# Altium footprint library microchip.PCBLIB: 54 footprints (part 2 of 4)
Each footprint in its own frame and in the unit in brackets; x right, y up, seen from the top. Pads: shape width x height; smd on the part's side, far side on the other; paste and mask are expansions set on the pad; w line width, h text height; cw(c..) or ccw(c..) is an arc to the next point about the centre after c.
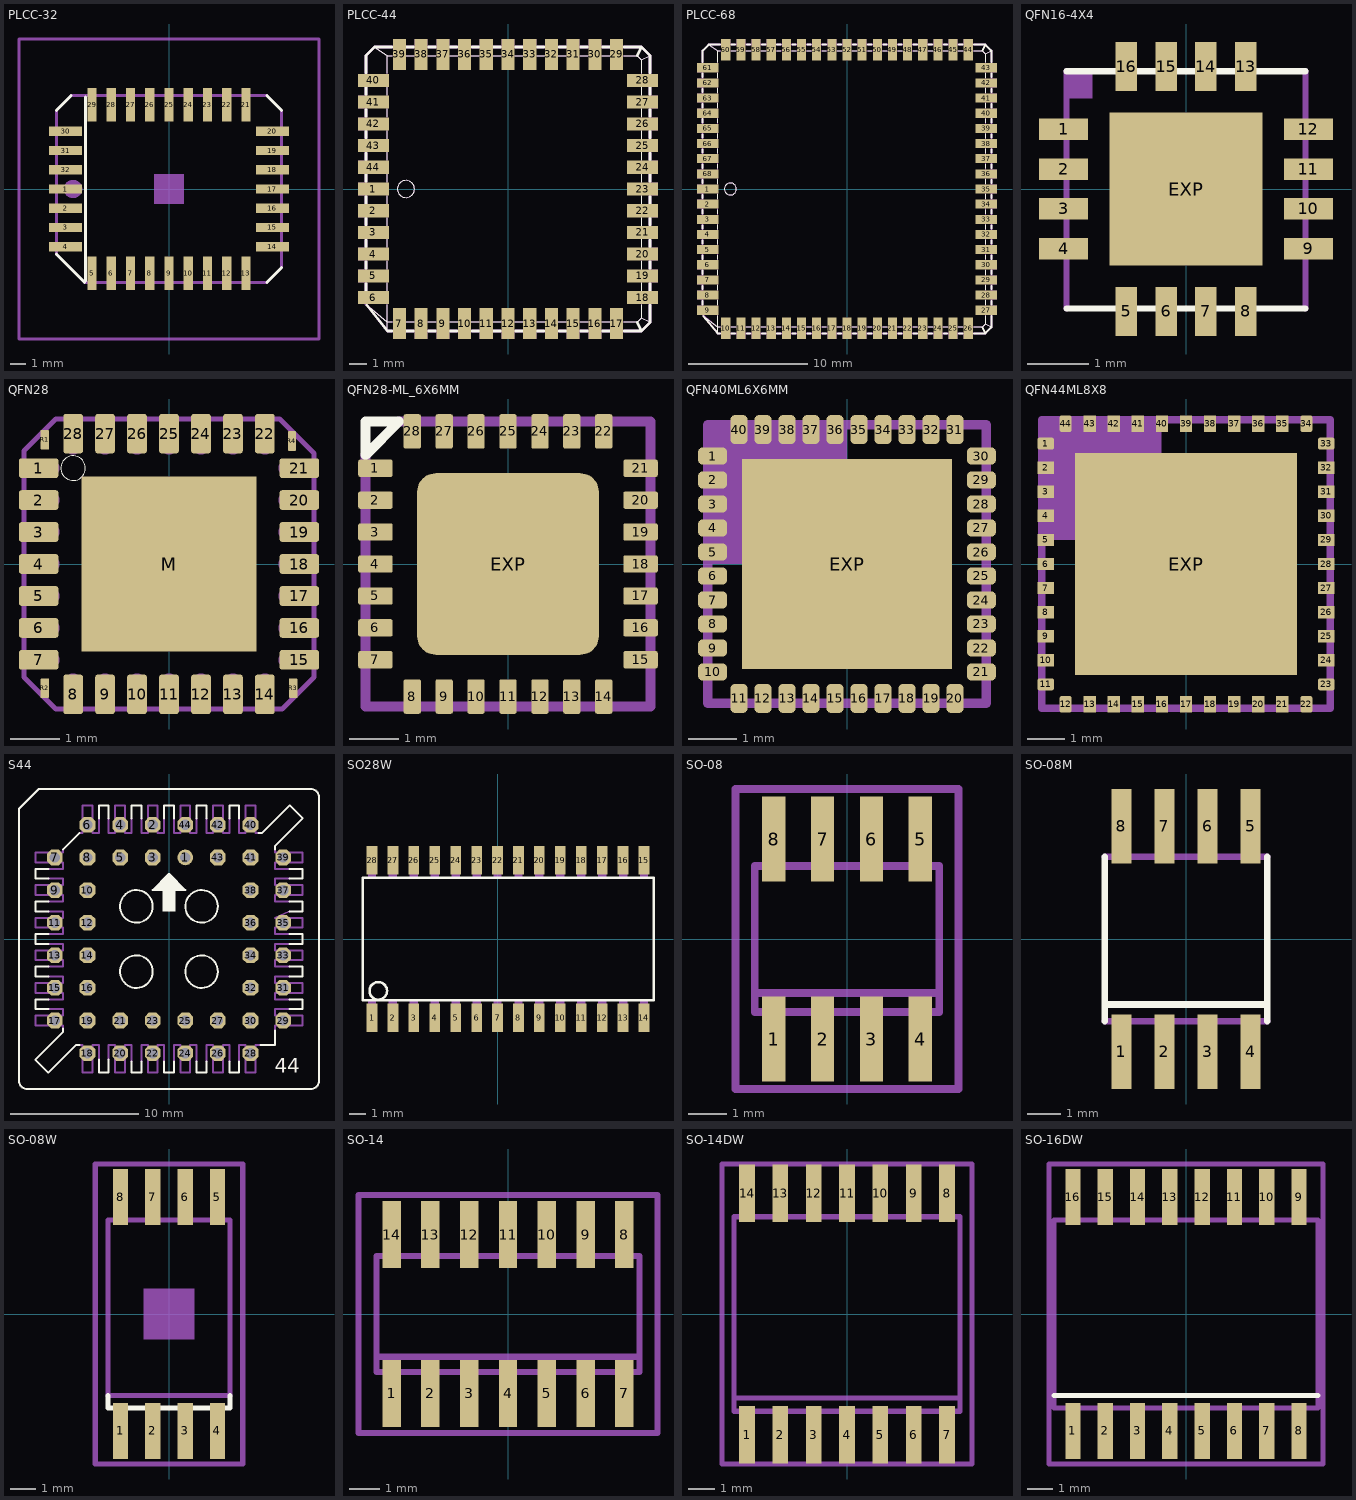
[diagram p1: the footprints below, top view; thin cyan lines are the x and y axes]

## PLCC-32 [mm]
pads (32):
  rect 2.2x0.6 smd: 1(-6.83,0) 2(-6.83,-1.27) 3(-6.83,-2.54) 4(-6.83,-3.81) 14(6.83,-3.81) 15(6.83,-2.54) 16(6.83,-1.27) 17(6.83,0) 18(6.83,1.27) 19(6.83,2.54) 20(6.83,3.81) 30(-6.83,3.81) 31(-6.83,2.54) 32(-6.83,1.27)
  rect 0.6x2.2 smd: 5(-5.08,-5.56) 6(-3.81,-5.56) 7(-2.54,-5.56) 8(-1.27,-5.56) 9(0,-5.56) 10(1.27,-5.56) 11(2.54,-5.56) 12(3.81,-5.56) 13(5.08,-5.56) 21(5.08,5.56) 22(3.81,5.56) 23(2.54,5.56) 24(1.27,5.56) 25(0,5.56) 26(-1.27,5.56) 27(-2.54,5.56) 28(-3.81,5.56) 29(-5.08,5.56)
Top Overlay:
  lines w0.203: -7.43,-4.306 -5.576,-6.16 ; -7.43,5.195 -6.465,6.16 ; -5.525,-6.084 -5.525,6.084 ; 6.465,-6.16 7.43,-5.195 ; 6.465,6.16 7.43,5.195
Mechanical 6:
  rectangle: -1,-1 1,1
Mechanical 16:
  circle w0.61: c-6.33,0 r0.3
  rectangle: -7.93,-0.26 -7.48,0.26
  rectangle: -7.93,-1.53 -7.48,-1.01
  rectangle: -7.93,-2.8 -7.48,-2.28
  rectangle: -7.93,-4.07 -7.48,-3.55
  rectangle: -5.34,-6.66 -4.82,-6.21
  rectangle: -4.07,-6.66 -3.55,-6.21
  rectangle: -2.8,-6.66 -2.28,-6.21
  rectangle: -1.53,-6.66 -1.01,-6.21
  rectangle: -0.26,-6.66 0.26,-6.21
  rectangle: 1.01,-6.66 1.53,-6.21
  rectangle: 2.28,-6.66 2.8,-6.21
  rectangle: 3.55,-6.66 4.07,-6.21
  rectangle: 4.82,-6.66 5.34,-6.21
  rectangle: 7.48,-4.07 7.93,-3.55
  rectangle: 7.48,-2.8 7.93,-2.28
  rectangle: 7.48,-1.53 7.93,-1.01
  rectangle: 7.48,-0.26 7.93,0.26
  rectangle: 7.48,1.01 7.93,1.53
  rectangle: 7.48,2.28 7.93,2.8
  rectangle: 7.48,3.55 7.93,4.07
  rectangle: 4.82,6.21 5.34,6.66
  rectangle: 3.55,6.21 4.07,6.66
  rectangle: 2.28,6.21 2.8,6.66
  rectangle: 1.01,6.21 1.53,6.66
  rectangle: -0.26,6.21 0.26,6.66
  rectangle: -1.53,6.21 -1.01,6.66
  rectangle: -2.8,6.21 -2.28,6.66
  rectangle: -4.07,6.21 -3.55,6.66
  rectangle: -5.34,6.21 -4.82,6.66
  rectangle: -7.93,3.55 -7.48,4.07
  rectangle: -7.93,2.28 -7.48,2.8
  rectangle: -7.93,1.01 -7.48,1.53
  lines w0.203: -7.43,-4.306 -7.43,5.195 ; -6.465,6.16 6.465,6.16 ; -5.576,-6.16 6.465,-6.16 ; 7.43,-5.195 7.43,5.195
Mechanical 27:
  lines w0.2: -9.903,-9.903 9.903,-9.903 9.903,9.903 -9.903,9.903 -9.903,-9.903

## PLCC-44 [mm]
pads (44):
  rect 1.8x0.76 smd: 1(-7.86,0) 2(-7.86,-1.27) 3(-7.86,-2.54) 4(-7.86,-3.81) 5(-7.86,-5.08) 6(-7.86,-6.35) 18(7.86,-6.35) 19(7.86,-5.08) 20(7.86,-3.81) 21(7.86,-2.54) 22(7.86,-1.27) 23(7.86,0) 24(7.86,1.27) 25(7.86,2.54) 26(7.86,3.81) 27(7.86,5.08) 28(7.86,6.35) 40(-7.86,6.35) 41(-7.86,5.08) 42(-7.86,3.81) 43(-7.86,2.54) 44(-7.86,1.27)
  rect 0.76x1.8 smd: 7(-6.35,-7.86) 8(-5.08,-7.86) 9(-3.81,-7.86) 10(-2.54,-7.86) 11(-1.27,-7.86) 12(0,-7.86) 13(1.27,-7.86) 14(2.54,-7.86) 15(3.81,-7.86) 16(5.08,-7.86) 17(6.35,-7.86) 29(6.35,7.86) 30(5.08,7.86) 31(3.81,7.86) 32(2.54,7.86) 33(1.27,7.86) 34(0,7.86) 35(-1.27,7.86) 36(-2.54,7.86) 37(-3.81,7.86) 38(-5.08,7.86) 39(-6.35,7.86)
Top Overlay:
  circle w0.051: c-5.96,0 r0.5
  lines w0.051: -8.27,-6.75 -7.04,-7.79 ; -7.79,8.29 -7.04,7.79 ; -7.04,-8.29 -7.04,-7.79 ; -7.04,-6.75 -7.04,-7.79 ; -7.04,-5.95 -7.04,-5.48 ; -7.04,-4.68 -7.04,-4.21 ; -7.04,-3.41 -7.04,-2.94 ; -7.04,-2.14 -7.04,-1.67 ; -7.04,-0.87 -7.04,-0.4 ; -7.04,0.4 -7.04,0.87 ; -7.04,1.67 -7.04,2.14 ; -7.04,2.94 -7.04,3.41 ; -7.04,4.21 -7.04,4.68 ; -7.04,5.48 -7.04,5.95 ; -7.04,6.75 -7.04,7.79 ; -6.75,-7.79 -7.04,-7.79 ; -6.75,7.79 -7.04,7.79 ; -5.95,-7.79 -5.48,-7.79 ; -5.95,7.79 -5.48,7.79 ; -4.68,-7.79 -4.21,-7.79 ; -4.68,7.79 -4.21,7.79 ; -3.41,-7.79 -2.94,-7.79 ; -3.41,7.79 -2.94,7.79 ; -2.14,-7.79 -1.67,-7.79 ; -2.14,7.79 -1.67,7.79 ; -0.87,-7.79 -0.4,-7.79 ; -0.87,7.79 -0.4,7.79 ; 0.4,-7.79 0.87,-7.79 ; 0.4,7.79 0.87,7.79 ; 1.67,-7.79 2.14,-7.79 ; 1.67,7.79 2.14,7.79 ; 2.94,-7.79 3.41,-7.79 ; 2.94,7.79 3.41,7.79 ; 4.21,-7.79 4.68,-7.79 ; 4.21,7.79 4.68,7.79 ; 5.48,-7.79 5.95,-7.79 ; 5.48,7.79 5.95,7.79 ; 6.75,-7.79 7.54,-7.79 7.79,-7.54 ; 6.75,7.79 7.54,7.79 7.79,7.54 ; 7.79,-6.75 7.79,-7.54 ; 7.79,-5.95 7.79,-5.48 ; 7.79,-4.68 7.79,-4.21 ; 7.79,-3.41 7.79,-2.94 ; 7.79,-2.14 7.79,-1.67 ; 7.79,-0.87 7.79,-0.4 ; 7.79,0.4 7.79,0.87 ; 7.79,1.67 7.79,2.14 ; 7.79,2.94 7.79,3.41 ; 7.79,4.21 7.79,4.68 ; 7.79,5.48 7.79,5.95 ; 7.79,6.75 7.79,7.54 ; 8.29,-7.79 7.79,-7.54 ; 8.29,7.79 7.79,7.54
  lines w0.152: -8.29,-5.91 -8.29,-5.52 ; -8.29,-4.64 -8.29,-4.25 ; -8.29,-3.37 -8.29,-2.98 ; -8.29,-2.1 -8.29,-1.71 ; -8.29,-0.83 -8.29,-0.44 ; -8.29,0.44 -8.29,0.83 ; -8.29,1.71 -8.29,2.1 ; -8.29,2.98 -8.29,3.37 ; -8.29,4.25 -8.29,4.64 ; -8.29,5.52 -8.29,5.91 ; -8.29,6.79 -8.29,7.79 -7.79,8.29 -6.79,8.29 ; -8.24,-6.79 -7.04,-8.29 -6.79,-8.29 ; -5.91,-8.29 -5.52,-8.29 ; -5.91,8.29 -5.52,8.29 ; -4.64,-8.29 -4.25,-8.29 ; -4.64,8.29 -4.25,8.29 ; -3.37,-8.29 -2.98,-8.29 ; -3.37,8.29 -2.98,8.29 ; -2.1,-8.29 -1.71,-8.29 ; -2.1,8.29 -1.71,8.29 ; -0.83,-8.29 -0.44,-8.29 ; -0.83,8.29 -0.44,8.29 ; 0.44,-8.29 0.83,-8.29 ; 0.44,8.29 0.83,8.29 ; 1.71,-8.29 2.1,-8.29 ; 1.71,8.29 2.1,8.29 ; 2.98,-8.29 3.37,-8.29 ; 2.98,8.29 3.37,8.29 ; 4.25,-8.29 4.64,-8.29 ; 4.25,8.29 4.64,8.29 ; 5.52,-8.29 5.91,-8.29 ; 5.52,8.29 5.91,8.29 ; 6.79,-8.29 7.79,-8.29 ; 6.79,8.29 7.79,8.29 ; 7.54,-7.79 7.79,-8.29 ; 7.54,7.79 7.79,8.29 ; 8.29,-6.79 8.29,-7.79 7.79,-8.29 ; 8.29,-5.91 8.29,-5.52 ; 8.29,-4.64 8.29,-4.25 ; 8.29,-3.37 8.29,-2.98 ; 8.29,-2.1 8.29,-1.71 ; 8.29,-0.83 8.29,-0.44 ; 8.29,0.44 8.29,0.83 ; 8.29,1.71 8.29,2.1 ; 8.29,2.98 8.29,3.37 ; 8.29,4.25 8.29,4.64 ; 8.29,5.52 8.29,5.91 ; 8.29,6.79 8.29,7.79 7.79,8.29
Mechanical 16:
  circle w0.051: c-5.96,0 r0.5
  rectangle: -2.92,8.29 -2.16,8.76
  rectangle: -1.65,8.29 -0.89,8.76
  rectangle: -0.38,8.29 0.38,8.76
  rectangle: 0.89,8.29 1.65,8.76
  rectangle: 2.16,8.29 2.92,8.76
  rectangle: 3.43,8.29 4.19,8.76
  rectangle: 4.7,8.29 5.46,8.76
  rectangle: 8.29,3.43 8.76,4.19
  rectangle: 8.29,2.16 8.76,2.92
  rectangle: 8.29,0.89 8.76,1.65
  rectangle: 8.29,-0.38 8.76,0.38
  rectangle: 8.29,-1.65 8.76,-0.89
  rectangle: 8.29,-2.92 8.76,-2.16
  rectangle: 8.29,-6.73 8.76,-5.97
  rectangle: -5.46,-8.76 -4.7,-8.29
  rectangle: -4.19,-8.76 -3.43,-8.29
  rectangle: -2.92,-8.76 -2.16,-8.29
  rectangle: -1.65,-8.76 -0.89,-8.29
  rectangle: -0.38,-8.76 0.38,-8.29
  rectangle: 0.89,-8.76 1.65,-8.29
  rectangle: 2.16,-8.76 2.92,-8.29
  rectangle: -8.76,3.43 -8.29,4.19
  rectangle: -8.76,2.16 -8.29,2.92
  rectangle: -8.76,0.89 -8.29,1.65
  rectangle: -8.76,-0.38 -8.29,0.38
  rectangle: -8.76,-1.65 -8.29,-0.89
  rectangle: -8.76,-2.92 -8.29,-2.16
  rectangle: -8.76,-6.73 -8.29,-5.97
  rectangle: -4.19,8.29 -3.43,8.76
  rectangle: -5.46,8.29 -4.7,8.76
  rectangle: 3.43,-8.76 4.19,-8.29
  rectangle: 4.7,-8.76 5.46,-8.29
  rectangle: -8.76,4.7 -8.29,5.46
  rectangle: -8.76,5.97 -8.29,6.73
  rectangle: -8.76,-4.19 -8.29,-3.43
  rectangle: -8.76,-5.46 -8.29,-4.7
  rectangle: 5.97,-8.76 6.73,-8.29
  rectangle: 8.29,-5.46 8.76,-4.7
  rectangle: 8.29,-4.19 8.76,-3.43
  rectangle: 8.29,4.7 8.76,5.46
  rectangle: 8.29,5.97 8.76,6.73
  rectangle: 5.97,8.29 6.73,8.76
  rectangle: -6.73,8.29 -5.97,8.76
  rectangle: -6.73,-8.76 -5.97,-8.29
  lines w0.051: -8.29,-6.73 -7.04,-7.79 ; -7.79,8.29 -7.04,7.79 ; -7.04,-8.29 -7.04,-7.79 ; 7.79,-8.29 7.54,-7.79 ; 7.79,8.29 7.54,7.79 ; 8.29,-7.79 7.79,-7.54 ; 8.29,7.79 7.79,7.54 ; -7.04,-7.79 7.54,-7.79 ; -7.04,-7.79 -7.04,7.79 ; -7.04,7.79 7.54,7.79 ; 7.54,-7.79 7.79,-7.54 ; 7.54,7.79 7.79,7.54 ; 7.79,-7.54 7.79,7.54
  lines w0.152: -8.29,-6.73 -7.04,-8.29 7.79,-8.29 8.29,-7.79 8.29,7.79 7.79,8.29 -7.79,8.29 -8.29,7.79 -8.29,-6.73

## PLCC-68 [mm]
pads (68):
  rect 1.8x0.76 smd: 1(-11.67,0) 2(-11.67,-1.27) 3(-11.67,-2.54) 4(-11.67,-3.81) 5(-11.67,-5.08) 6(-11.67,-6.35) 7(-11.67,-7.62) 8(-11.67,-8.89) 9(-11.67,-10.16) 27(11.67,-10.16) 28(11.67,-8.89) 29(11.67,-7.62) 30(11.67,-6.35) 31(11.67,-5.08) 32(11.67,-3.81) 33(11.67,-2.54) 34(11.67,-1.27) 35(11.67,0) 36(11.67,1.27) 37(11.67,2.54) 38(11.67,3.81) 39(11.67,5.08) 40(11.67,6.35) 41(11.67,7.62) 42(11.67,8.89) 43(11.67,10.16) 61(-11.67,10.16) 62(-11.67,8.89) 63(-11.67,7.62) 64(-11.67,6.35) 65(-11.67,5.08) 66(-11.67,3.81) 67(-11.67,2.54) 68(-11.67,1.27)
  rect 0.76x1.8 smd: 10(-10.16,-11.67) 11(-8.89,-11.67) 12(-7.62,-11.67) 13(-6.35,-11.67) 14(-5.08,-11.67) 15(-3.81,-11.67) 16(-2.54,-11.67) 17(-1.27,-11.67) 18(0,-11.67) 19(1.27,-11.67) 20(2.54,-11.67) 21(3.81,-11.67) 22(5.08,-11.67) 23(6.35,-11.67) 24(7.62,-11.67) 25(8.89,-11.67) 26(10.16,-11.67) 44(10.16,11.67) 45(8.89,11.67) 46(7.62,11.67) 47(6.35,11.67) 48(5.08,11.67) 49(3.81,11.67) 50(2.54,11.67) 51(1.27,11.67) 52(0,11.67) 53(-1.27,11.67) 54(-2.54,11.67) 55(-3.81,11.67) 56(-5.08,11.67) 57(-6.35,11.67) 58(-7.62,11.67) 59(-8.89,11.67) 60(-10.16,11.67)
Top Overlay:
  drawing of 157 lines, arcs and shapes, not listed
Mechanical 16:
  circle w0.051: c-9.77,0 r0.5
  rectangle: -2.92,12.1 -2.16,12.57
  rectangle: -1.65,12.1 -0.89,12.57
  rectangle: -0.38,12.1 0.38,12.57
  rectangle: 0.89,12.1 1.65,12.57
  rectangle: 2.16,12.1 2.92,12.57
  rectangle: 3.43,12.1 4.19,12.57
  rectangle: 4.7,12.1 5.46,12.57
  rectangle: 12.1,3.43 12.57,4.19
  rectangle: 12.1,2.16 12.57,2.92
  rectangle: 12.1,0.89 12.57,1.65
  rectangle: 12.1,-0.38 12.57,0.38
  rectangle: 12.1,-1.65 12.57,-0.89
  rectangle: 12.1,-2.92 12.57,-2.16
  rectangle: 12.1,-10.54 12.57,-9.78
  rectangle: -5.46,-12.57 -4.7,-12.1
  rectangle: -4.19,-12.57 -3.43,-12.1
  rectangle: -2.92,-12.57 -2.16,-12.1
  rectangle: -1.65,-12.57 -0.89,-12.1
  rectangle: -0.38,-12.57 0.38,-12.1
  rectangle: 0.89,-12.57 1.65,-12.1
  rectangle: 2.16,-12.57 2.92,-12.1
  rectangle: -12.57,3.43 -12.1,4.19
  rectangle: -12.57,2.16 -12.1,2.92
  rectangle: -12.57,0.89 -12.1,1.65
  rectangle: -12.57,-0.38 -12.1,0.38
  rectangle: -12.57,-1.65 -12.1,-0.89
  rectangle: -12.57,-2.92 -12.1,-2.16
  rectangle: -12.57,-10.54 -12.1,-9.78
  rectangle: -4.19,12.1 -3.43,12.57
  rectangle: -5.46,12.1 -4.7,12.57
  rectangle: 3.43,-12.57 4.19,-12.1
  rectangle: 4.7,-12.57 5.46,-12.1
  rectangle: -12.57,4.7 -12.1,5.46
  rectangle: -12.57,5.97 -12.1,6.73
  rectangle: -12.57,-4.19 -12.1,-3.43
  rectangle: -12.57,-5.46 -12.1,-4.7
  rectangle: 5.97,-12.57 6.73,-12.1
  rectangle: 12.1,-5.46 12.57,-4.7
  rectangle: 12.1,-4.19 12.57,-3.43
  rectangle: 12.1,4.7 12.57,5.46
  rectangle: 12.1,5.97 12.57,6.73
  rectangle: 5.97,12.1 6.73,12.57
  rectangle: -6.73,12.1 -5.97,12.57
  rectangle: -6.73,-12.57 -5.97,-12.1
  rectangle: 12.1,-6.73 12.57,-5.97
  rectangle: 12.1,-8 12.57,-7.24
  rectangle: 12.1,-9.27 12.57,-8.51
  rectangle: 7.24,-12.57 8,-12.1
  rectangle: 8.51,-12.57 9.27,-12.1
  rectangle: 9.78,-12.57 10.54,-12.1
  rectangle: -8,-12.57 -7.24,-12.1
  rectangle: -9.27,-12.57 -8.51,-12.1
  rectangle: -10.54,-12.57 -9.78,-12.1
  rectangle: -12.57,-6.73 -12.1,-5.97
  rectangle: -12.57,-8 -12.1,-7.24
  rectangle: -12.57,-9.27 -12.1,-8.51
  rectangle: -8,12.1 -7.24,12.57
  rectangle: -9.27,12.1 -8.51,12.57
  rectangle: -10.54,12.1 -9.78,12.57
  rectangle: -12.57,7.24 -12.1,8
  rectangle: -12.57,8.51 -12.1,9.27
  rectangle: -12.57,9.78 -12.1,10.54
  rectangle: 7.24,12.1 8,12.57
  rectangle: 8.51,12.1 9.27,12.57
  rectangle: 9.78,12.1 10.54,12.57
  rectangle: 12.1,7.24 12.57,8
  rectangle: 12.1,8.51 12.57,9.27
  rectangle: 12.1,9.78 12.57,10.54
  lines w0.051: -12.1,-10.54 -10.85,-11.6 ; -11.6,12.1 -10.85,11.6 ; -10.85,-12.1 -10.85,-11.6 ; 11.6,-12.1 11.35,-11.6 ; 11.6,12.1 11.35,11.6 ; 12.1,-11.6 11.6,-11.35 ; 12.1,11.6 11.6,11.35 ; -10.85,-11.6 11.35,-11.6 ; -10.85,-11.6 -10.85,11.6 ; -10.85,11.6 11.35,11.6 ; 11.35,-11.6 11.6,-11.35 ; 11.35,11.6 11.6,11.35 ; 11.6,-11.35 11.6,11.35
  lines w0.152: -12.1,-10.54 -10.85,-12.1 11.6,-12.1 12.1,-11.6 12.1,11.6 11.6,12.1 -11.6,12.1 -12.1,11.6 -12.1,-10.54

## QFN16-4X4 [mm]
pads (17):
  rect 0.8x0.35 smd: 1(-2,0.975) 2(-2,0.325) 3(-2,-0.325) 4(-2,-0.975) 9(2,-0.975) 10(2,-0.325) 11(2,0.325) 12(2,0.975)
  rect 0.35x0.8 smd: 5(-0.975,-2) 6(-0.325,-2) 7(0.325,-2) 8(0.975,-2) 13(0.975,2) 14(0.325,2) 15(-0.325,2) 16(-0.975,2)
  rect 2.5x2.5 smd: EXP(0,0)
Top Overlay:
  lines w0.102: -1.95,-1.95 1.95,-1.95 ; -1.95,1.925 1.95,1.925
Top Paste:
  rectangle: -1.175,-1.175 1.175,1.175
  rectangle: -2.375,0.825 -1.625,1.125
  rectangle: -2.375,0.175 -1.625,0.475
  rectangle: -2.375,-0.475 -1.625,-0.175
  rectangle: -2.375,-1.125 -1.625,-0.825
  region: -0.825,-2.375 -0.825,-1.625 -1.125,-1.625 -1.125,-2.375
  region: -0.175,-2.375 -0.175,-1.625 -0.475,-1.625 -0.475,-2.375
  region: 0.475,-2.375 0.475,-1.625 0.175,-1.625 0.175,-2.375
  region: 1.125,-2.375 1.125,-1.625 0.825,-1.625 0.825,-2.375
  region: 2.375,-0.825 1.625,-0.825 1.625,-1.125 2.375,-1.125
  region: 2.375,-0.175 1.625,-0.175 1.625,-0.475 2.375,-0.475
  region: 2.375,0.475 1.625,0.475 1.625,0.175 2.375,0.175
  region: 2.375,1.125 1.625,1.125 1.625,0.825 2.375,0.825
  region: 0.825,2.375 0.825,1.625 1.125,1.625 1.125,2.375
  region: 0.175,2.375 0.175,1.625 0.475,1.625 0.475,2.375
  region: -0.475,2.375 -0.475,1.625 -0.175,1.625 -0.175,2.375
  region: -1.125,2.375 -1.125,1.625 -0.825,1.625 -0.825,2.375
Top Solder:
  rectangle: -1.3,-1.3 1.3,1.3
  rectangle: -2.45,0.75 -1.55,1.2
  rectangle: -2.45,0.1 -1.55,0.55
  rectangle: -2.45,-0.55 -1.55,-0.1
  rectangle: -2.45,-1.2 -1.55,-0.75
  region: -0.75,-2.45 -0.75,-1.55 -1.2,-1.55 -1.2,-2.45
  region: -0.1,-2.45 -0.1,-1.55 -0.55,-1.55 -0.55,-2.45
  region: 0.55,-2.45 0.55,-1.55 0.1,-1.55 0.1,-2.45
  region: 1.2,-2.45 1.2,-1.55 0.75,-1.55 0.75,-2.45
  region: 2.45,-0.75 1.55,-0.75 1.55,-1.2 2.45,-1.2
  region: 2.45,-0.1 1.55,-0.1 1.55,-0.55 2.45,-0.55
  region: 2.45,0.55 1.55,0.55 1.55,0.1 2.45,0.1
  region: 2.45,1.2 1.55,1.2 1.55,0.75 2.45,0.75
  region: 0.75,2.45 0.75,1.55 1.2,1.55 1.2,2.45
  region: 0.1,2.45 0.1,1.55 0.55,1.55 0.55,2.45
  region: -0.55,2.45 -0.55,1.55 -0.1,1.55 -0.1,2.45
  region: -1.2,2.45 -1.2,1.55 -0.75,1.55 -0.75,2.45
Mechanical 16:
  rectangle: -1.95,1.475 -1.525,1.925
  lines w0.102: -1.95,-1.95 -1.95,1.925 ; 1.95,-1.95 1.95,1.925

## QFN28 [mm]
pads (33):
  rrect25% 0.8x0.4 smd: 1(-2.65,1.95) 2(-2.65,1.3) 3(-2.65,0.65) 4(-2.65,0) 5(-2.65,-0.65) 6(-2.65,-1.3) 7(-2.65,-1.95) 15(2.65,-1.95) 16(2.65,-1.3) 17(2.65,-0.65) 18(2.65,0) 19(2.65,0.65) 20(2.65,1.3) 21(2.65,1.95)
  rrect25% 0.4x0.8 smd: 8(-1.95,-2.65) 9(-1.3,-2.65) 10(-0.65,-2.65) 11(0,-2.65) 12(0.65,-2.65) 13(1.3,-2.65) 14(1.95,-2.65) 22(1.95,2.65) 23(1.3,2.65) 24(0.65,2.65) 25(0,2.65) 26(-0.65,2.65) 27(-1.3,2.65) 28(-1.95,2.65)
  rect 3.55x3.55 smd: M(0,0)
  rrect25% 0.17x0.4 smd: R1(-2.525,2.525) R2(-2.525,-2.525) R3(2.525,-2.525) R4(2.5,2.5)
Top Overlay:
  circle w0: c-1.95,1.95 r0.25
Top Paste:
  circle w0: c-2.4,1.95 r0.175
  circle w0: c-2.4,1.3 r0.175
  circle w0: c-2.4,0.65 r0.175
  circle w0: c-2.4,0 r0.175
  circle w0: c-2.4,-0.65 r0.175
  circle w0: c-2.4,-1.3 r0.175
  circle w0: c-2.4,-1.95 r0.175
  circle w0: c-1.95,-2.4 r0.175
  circle w0: c-1.3,-2.4 r0.175
  circle w0: c-0.65,-2.4 r0.175
  circle w0: c0,-2.4 r0.175
  circle w0: c0.65,-2.4 r0.175
  circle w0: c1.3,-2.4 r0.175
  circle w0: c1.95,-2.4 r0.175
  circle w0: c2.4,-1.95 r0.175
  circle w0: c2.4,-1.3 r0.175
  circle w0: c2.4,-0.65 r0.175
  circle w0: c2.4,0 r0.175
  circle w0: c2.4,0.65 r0.175
  circle w0: c2.4,1.3 r0.175
  circle w0: c2.4,1.95 r0.175
  circle w0: c1.95,2.4 r0.175
  circle w0: c1.3,2.4 r0.175
  circle w0: c0.65,2.4 r0.175
  circle w0: c0,2.4 r0.175
  circle w0: c-0.65,2.4 r0.175
  circle w0: c-1.3,2.4 r0.175
  circle w0: c-1.95,2.4 r0.175
  rectangle: -1.725,-1.725 1.725,1.725
  rectangle: -2.728,-2.614 -2.328,-2.443
  rectangle: 2.329,-2.613 2.729,-2.443
  rectangle: -2.729,2.443 -2.329,2.613
  rectangle: 2.301,2.416 2.702,2.586
  rectangle: -3,1.775 -2.4,2.125
  rectangle: -3,1.125 -2.4,1.475
  rectangle: -3,0.475 -2.4,0.825
  rectangle: -3,-0.175 -2.4,0.175
  rectangle: -3,-0.825 -2.4,-0.475
  rectangle: -3,-1.475 -2.4,-1.125
  rectangle: -3,-2.125 -2.4,-1.775
  region: -1.775,-3 -1.775,-2.4 -2.125,-2.4 -2.125,-3
  region: -1.125,-3 -1.125,-2.4 -1.475,-2.4 -1.475,-3
  region: -0.475,-3 -0.475,-2.4 -0.825,-2.4 -0.825,-3
  region: 0.175,-3 0.175,-2.4 -0.175,-2.4 -0.175,-3
  region: 0.825,-3 0.825,-2.4 0.475,-2.4 0.475,-3
  region: 1.475,-3 1.475,-2.4 1.125,-2.4 1.125,-3
  region: 2.125,-3 2.125,-2.4 1.775,-2.4 1.775,-3
  region: 3,-1.775 2.4,-1.775 2.4,-2.125 3,-2.125
  region: 3,-1.125 2.4,-1.125 2.4,-1.475 3,-1.475
  region: 3,-0.475 2.4,-0.475 2.4,-0.825 3,-0.825
  region: 3,0.175 2.4,0.175 2.4,-0.175 3,-0.175
  region: 3,0.825 2.4,0.825 2.4,0.475 3,0.475
  region: 3,1.475 2.4,1.475 2.4,1.125 3,1.125
  region: 3,2.125 2.4,2.125 2.4,1.775 3,1.775
  region: 1.775,3 1.775,2.4 2.125,2.4 2.125,3
  region: 1.125,3 1.125,2.4 1.475,2.4 1.475,3
  region: 0.475,3 0.475,2.4 0.825,2.4 0.825,3
  region: -0.175,3 -0.175,2.4 0.175,2.4 0.175,3
  region: -0.825,3 -0.825,2.4 -0.475,2.4 -0.475,3
  region: -1.475,3 -1.475,2.4 -1.125,2.4 -1.125,3
  region: -2.125,3 -2.125,2.4 -1.775,2.4 -1.775,3
Top Solder:
  circle w0: c-2.4,1.95 r0.175
  circle w0: c-2.4,1.3 r0.175
  circle w0: c-2.4,0.65 r0.175
  circle w0: c-2.4,0 r0.175
  circle w0: c-2.4,-0.65 r0.175
  circle w0: c-2.4,-1.3 r0.175
  circle w0: c-2.4,-1.95 r0.175
  circle w0: c-1.95,-2.4 r0.175
  circle w0: c-1.3,-2.4 r0.175
  circle w0: c-0.65,-2.4 r0.175
  circle w0: c0,-2.4 r0.175
  circle w0: c0.65,-2.4 r0.175
  circle w0: c1.3,-2.4 r0.175
  circle w0: c1.95,-2.4 r0.175
  circle w0: c2.4,-1.95 r0.175
  circle w0: c2.4,-1.3 r0.175
  circle w0: c2.4,-0.65 r0.175
  circle w0: c2.4,0 r0.175
  circle w0: c2.4,0.65 r0.175
  circle w0: c2.4,1.3 r0.175
  circle w0: c2.4,1.95 r0.175
  circle w0: c1.95,2.4 r0.175
  circle w0: c1.3,2.4 r0.175
  circle w0: c0.65,2.4 r0.175
  circle w0: c0,2.4 r0.175
  circle w0: c-0.65,2.4 r0.175
  circle w0: c-1.3,2.4 r0.175
  circle w0: c-1.95,2.4 r0.175
  rectangle: -3,1.775 -2.4,2.125
  rectangle: -3,1.125 -2.4,1.475
  rectangle: -3,0.475 -2.4,0.825
  rectangle: -3,-0.175 -2.4,0.175
  rectangle: -3,-0.825 -2.4,-0.475
  rectangle: -3,-1.475 -2.4,-1.125
  rectangle: -3,-2.125 -2.4,-1.775
  region: -1.775,-3 -1.775,-2.4 -2.125,-2.4 -2.125,-3
  region: -1.125,-3 -1.125,-2.4 -1.475,-2.4 -1.475,-3
  region: -0.475,-3 -0.475,-2.4 -0.825,-2.4 -0.825,-3
  region: 0.175,-3 0.175,-2.4 -0.175,-2.4 -0.175,-3
  region: 0.825,-3 0.825,-2.4 0.475,-2.4 0.475,-3
  region: 1.475,-3 1.475,-2.4 1.125,-2.4 1.125,-3
  region: 2.125,-3 2.125,-2.4 1.775,-2.4 1.775,-3
  region: 3,-1.775 2.4,-1.775 2.4,-2.125 3,-2.125
  region: 3,-1.125 2.4,-1.125 2.4,-1.475 3,-1.475
  region: 3,-0.475 2.4,-0.475 2.4,-0.825 3,-0.825
  region: 3,0.175 2.4,0.175 2.4,-0.175 3,-0.175
  region: 3,0.825 2.4,0.825 2.4,0.475 3,0.475
  region: 3,1.475 2.4,1.475 2.4,1.125 3,1.125
  region: 3,2.125 2.4,2.125 2.4,1.775 3,1.775
  region: 1.775,3 1.775,2.4 2.125,2.4 2.125,3
  region: 1.125,3 1.125,2.4 1.475,2.4 1.475,3
  region: 0.475,3 0.475,2.4 0.825,2.4 0.825,3
  region: -0.175,3 -0.175,2.4 0.175,2.4 0.175,3
  region: -0.825,3 -0.825,2.4 -0.475,2.4 -0.475,3
  region: -1.475,3 -1.475,2.4 -1.125,2.4 -1.125,3
  region: -2.125,3 -2.125,2.4 -1.775,2.4 -1.775,3
  rectangle: -1.75,-1.75 1.75,1.75
Mechanical 16:
  rectangle: -3,1.775 -2.4,2.125
  rectangle: -3,1.125 -2.4,1.475
  rectangle: -3,0.475 -2.4,0.825
  rectangle: -3,-0.175 -2.4,0.175
  rectangle: -3,-0.825 -2.4,-0.475
  rectangle: -3,-1.475 -2.4,-1.125
  rectangle: -3,-2.125 -2.4,-1.775
  region: -1.775,-3 -1.775,-2.4 -2.125,-2.4 -2.125,-3
  region: -1.125,-3 -1.125,-2.4 -1.475,-2.4 -1.475,-3
  region: -0.475,-3 -0.475,-2.4 -0.825,-2.4 -0.825,-3
  region: 0.175,-3 0.175,-2.4 -0.175,-2.4 -0.175,-3
  region: 0.825,-3 0.825,-2.4 0.475,-2.4 0.475,-3
  region: 1.475,-3 1.475,-2.4 1.125,-2.4 1.125,-3
  region: 2.125,-3 2.125,-2.4 1.775,-2.4 1.775,-3
  region: 3,-1.775 2.4,-1.775 2.4,-2.125 3,-2.125
  region: 3,-1.125 2.4,-1.125 2.4,-1.475 3,-1.475
  region: 3,-0.475 2.4,-0.475 2.4,-0.825 3,-0.825
  region: 3,0.175 2.4,0.175 2.4,-0.175 3,-0.175
  region: 3,0.825 2.4,0.825 2.4,0.475 3,0.475
  region: 3,1.475 2.4,1.475 2.4,1.125 3,1.125
  region: 3,2.125 2.4,2.125 2.4,1.775 3,1.775
  region: 1.775,3 1.775,2.4 2.125,2.4 2.125,3
  region: 1.125,3 1.125,2.4 1.475,2.4 1.475,3
  region: 0.475,3 0.475,2.4 0.825,2.4 0.825,3
  region: -0.175,3 -0.175,2.4 0.175,2.4 0.175,3
  region: -0.825,3 -0.825,2.4 -0.475,2.4 -0.475,3
  region: -1.475,3 -1.475,2.4 -1.125,2.4 -1.125,3
  region: -2.125,3 -2.125,2.4 -1.775,2.4 -1.775,3
  lines w0.102: -2.95,-2.3 -2.3,-2.95 2.3,-2.95 2.95,-2.3 2.95,2.25 2.25,2.95 -2.3,2.95 -2.95,2.3 -2.95,-2.3
  lines w0.18: -2.405,-2.038 ccw(c-2.405,-1.95) -2.405,-1.863 ; -2.405,-1.388 ccw(c-2.405,-1.3) -2.405,-1.213 ; -2.405,-0.738 ccw(c-2.405,-0.65) -2.405,-0.563 ; -2.405,-0.087 ccw(c-2.405,0) -2.405,0.087 ; -2.405,0.563 ccw(c-2.405,0.65) -2.405,0.738 ; -2.405,1.213 ccw(c-2.405,1.3) -2.405,1.388 ; -2.405,1.863 ccw(c-2.405,1.95) -2.405,2.038 ; -2.038,-2.405 cw(c-1.95,-2.405) -1.863,-2.405 ; -2.038,2.405 ccw(c-1.95,2.405) -1.863,2.405 ; -1.388,-2.405 cw(c-1.3,-2.405) -1.213,-2.405 ; -1.388,2.405 ccw(c-1.3,2.405) -1.213,2.405 ; -0.738,-2.405 cw(c-0.65,-2.405) -0.563,-2.405 ; -0.738,2.405 ccw(c-0.65,2.405) -0.563,2.405 ; -0.087,-2.405 cw(c0,-2.405) 0.087,-2.405 ; -0.087,2.405 ccw(c0,2.405) 0.087,2.405 ; 0.563,-2.405 cw(c0.65,-2.405) 0.738,-2.405 ; 0.563,2.405 ccw(c0.65,2.405) 0.738,2.405 ; 1.213,-2.405 cw(c1.3,-2.405) 1.388,-2.405 ; 1.213,2.405 ccw(c1.3,2.405) 1.388,2.405 ; 1.863,-2.405 cw(c1.95,-2.405) 2.038,-2.405 ; 1.863,2.405 ccw(c1.95,2.405) 2.038,2.405 ; 2.405,-2.038 cw(c2.405,-1.95) 2.405,-1.863 ; 2.405,-1.388 cw(c2.405,-1.3) 2.405,-1.213 ; 2.405,-0.738 cw(c2.405,-0.65) 2.405,-0.563 ; 2.405,-0.087 cw(c2.405,0) 2.405,0.087 ; 2.405,0.563 cw(c2.405,0.65) 2.405,0.738 ; 2.405,1.213 cw(c2.405,1.3) 2.405,1.388 ; 2.405,1.863 cw(c2.405,1.95) 2.405,2.038

## QFN28-ML_6X6MM [mm]
pads (29):
  rrect20% 0.7x0.35 smd: 1(-2.7,1.95) 2(-2.7,1.3) 3(-2.7,0.65) 4(-2.7,0) 5(-2.7,-0.65) 6(-2.7,-1.3) 7(-2.7,-1.95) 15(2.7,-1.95) 16(2.7,-1.3) 17(2.7,-0.65) 18(2.7,0) 19(2.7,0.65) 20(2.7,1.3) 21(2.7,1.95)
  rrect20% 0.35x0.7 smd: 8(-1.95,-2.7) 9(-1.3,-2.7) 10(-0.65,-2.7) 11(0,-2.7) 12(0.65,-2.7) 13(1.3,-2.7) 14(1.95,-2.7) 22(1.95,2.7) 23(1.3,2.7) 24(0.65,2.7) 25(0,2.7) 26(-0.65,2.7) 27(-1.3,2.7) 28(-1.95,2.7)
  rrect20% 3.7x3.7 smd: EXP(0,0)
Top Overlay:
  lines w0.203: -2.898,2.221 -2.22,2.9 -2.22,2.898 -2.898,2.898 -2.898,2.221
Top Paste:
  rectangle: -3.042,1.787 -2.359,2.113
  rectangle: -3.042,1.137 -2.359,1.463
  rectangle: -3.042,0.487 -2.359,0.813
  rectangle: -3.042,-0.163 -2.359,0.163
  rectangle: -3.042,-0.813 -2.359,-0.487
  rectangle: -3.042,-1.463 -2.359,-1.137
  rectangle: -3.042,-2.113 -2.359,-1.787
  region: -1.788,-3.042 -1.788,-2.36 -2.112,-2.36 -2.112,-3.042
  region: -1.138,-3.042 -1.138,-2.36 -1.462,-2.36 -1.462,-3.042
  region: -0.488,-3.042 -0.488,-2.36 -0.812,-2.36 -0.812,-3.042
  region: 0.162,-3.042 0.162,-2.36 -0.162,-2.36 -0.162,-3.042
  region: 0.812,-3.042 0.812,-2.36 0.488,-2.36 0.488,-3.042
  region: 1.462,-3.042 1.462,-2.36 1.138,-2.36 1.138,-3.042
  region: 2.112,-3.042 2.112,-2.36 1.788,-2.36 1.788,-3.042
  region: 3.042,-1.787 2.359,-1.787 2.359,-2.113 3.042,-2.113
  region: 3.042,-1.137 2.359,-1.137 2.359,-1.463 3.042,-1.463
  region: 3.042,-0.487 2.359,-0.487 2.359,-0.813 3.042,-0.813
  region: 3.042,0.163 2.359,0.163 2.359,-0.163 3.042,-0.163
  region: 3.042,0.813 2.359,0.813 2.359,0.487 3.042,0.487
  region: 3.042,1.463 2.359,1.463 2.359,1.137 3.042,1.137
  region: 3.042,2.113 2.359,2.113 2.359,1.787 3.042,1.787
  region: 1.788,3.042 1.788,2.36 2.112,2.36 2.112,3.042
  region: 1.138,3.042 1.138,2.36 1.462,2.36 1.462,3.042
  region: 0.488,3.042 0.488,2.36 0.812,2.36 0.812,3.042
  region: -0.162,3.042 -0.162,2.36 0.162,2.36 0.162,3.042
  region: -0.812,3.042 -0.812,2.36 -0.488,2.36 -0.488,3.042
  region: -1.462,3.042 -1.462,2.36 -1.138,2.36 -1.138,3.042
  region: -2.112,3.042 -2.112,2.36 -1.788,2.36 -1.788,3.042
  rectangle: -1.736,-1.736 1.736,1.736
Top Solder:
  rectangle: -3.055,1.768 -2.346,2.132
  rectangle: -3.055,1.118 -2.346,1.482
  rectangle: -3.055,0.468 -2.346,0.832
  rectangle: -3.055,-0.182 -2.346,0.182
  rectangle: -3.055,-0.832 -2.346,-0.468
  rectangle: -3.055,-1.482 -2.346,-1.118
  rectangle: -3.055,-2.132 -2.346,-1.768
  region: -1.768,-3.055 -1.768,-2.346 -2.132,-2.346 -2.132,-3.055
  region: -1.118,-3.055 -1.118,-2.346 -1.482,-2.346 -1.482,-3.055
  region: -0.468,-3.055 -0.468,-2.346 -0.832,-2.346 -0.832,-3.055
  region: 0.182,-3.055 0.182,-2.347 -0.182,-2.347 -0.182,-3.055
  region: 0.832,-3.055 0.832,-2.346 0.468,-2.346 0.468,-3.055
  region: 1.482,-3.055 1.482,-2.346 1.118,-2.346 1.118,-3.055
  region: 2.132,-3.055 2.132,-2.346 1.768,-2.346 1.768,-3.055
  region: 3.055,-1.768 2.346,-1.768 2.346,-2.132 3.055,-2.132
  region: 3.055,-1.118 2.346,-1.118 2.346,-1.482 3.055,-1.482
  region: 3.055,-0.468 2.346,-0.468 2.346,-0.832 3.055,-0.832
  region: 3.055,0.182 2.346,0.182 2.346,-0.182 3.055,-0.182
  region: 3.055,0.832 2.346,0.832 2.346,0.468 3.055,0.468
  region: 3.055,1.482 2.346,1.482 2.346,1.118 3.055,1.118
  region: 3.055,2.132 2.346,2.132 2.346,1.768 3.055,1.768
  region: 1.768,3.055 1.768,2.346 2.132,2.346 2.132,3.055
  region: 1.118,3.055 1.118,2.346 1.482,2.346 1.482,3.055
  region: 0.468,3.055 0.468,2.346 0.832,2.346 0.832,3.055
  region: -0.182,3.055 -0.182,2.347 0.182,2.347 0.182,3.055
  region: -0.832,3.055 -0.832,2.346 -0.468,2.346 -0.468,3.055
  region: -1.482,3.055 -1.482,2.346 -1.118,2.346 -1.118,3.055
  region: -2.132,3.055 -2.132,2.346 -1.768,2.346 -1.768,3.055
  rectangle: -1.859,-1.859 1.859,1.859
Mechanical 16:
  lines w0.203: -2.898,2.221 -2.898,-2.898 2.898,-2.898 2.898,2.898 -2.22,2.898

## QFN40ML6X6MM [mm]
pads (41):
  rrect50% 0.6x0.35 smd: 1(-2.8,2.25) 2(-2.8,1.75) 3(-2.8,1.25) 4(-2.8,0.75) 5(-2.8,0.25) 6(-2.8,-0.25) 7(-2.8,-0.75) 8(-2.8,-1.25) 9(-2.8,-1.75) 10(-2.8,-2.25) 21(2.8,-2.25) 22(2.8,-1.75) 23(2.8,-1.25) 24(2.8,-0.75) 25(2.8,-0.25) 26(2.8,0.25) 27(2.8,0.75) 28(2.8,1.25) 29(2.8,1.75) 30(2.8,2.25)
  rrect50% 0.35x0.6 smd: 11(-2.25,-2.8) 12(-1.75,-2.8) 13(-1.25,-2.8) 14(-0.75,-2.8) 15(-0.25,-2.8) 16(0.25,-2.8) 17(0.75,-2.8) 18(1.25,-2.8) 19(1.75,-2.8) 20(2.25,-2.8) 31(2.25,2.8) 32(1.75,2.8) 33(1.25,2.8) 34(0.75,2.8) 35(0.25,2.8) 36(-0.25,2.8) 37(-0.75,2.8) 38(-1.25,2.8) 39(-1.75,2.8) 40(-2.25,2.8)
  rect 4.37x4.37 smd: EXP(0,0)
Top Solder:
  circle w0: c-2.675,2.25 r0.201
  circle w0: c-2.675,1.75 r0.201
  circle w0: c-2.675,1.25 r0.201
  circle w0: c-2.675,0.75 r0.201
  circle w0: c-2.675,0.25 r0.201
  circle w0: c-2.675,-0.25 r0.201
  circle w0: c-2.675,-0.75 r0.201
  circle w0: c-2.675,-1.25 r0.201
  circle w0: c-2.675,-1.75 r0.201
  circle w0: c-2.675,-2.25 r0.201
  circle w0: c-2.25,-2.675 r0.201
  circle w0: c-1.75,-2.675 r0.201
  circle w0: c-1.25,-2.675 r0.201
  circle w0: c-0.75,-2.675 r0.201
  circle w0: c-0.25,-2.675 r0.201
  circle w0: c0.25,-2.675 r0.201
  circle w0: c0.75,-2.675 r0.201
  circle w0: c1.25,-2.675 r0.201
  circle w0: c1.75,-2.675 r0.201
  circle w0: c2.25,-2.675 r0.201
  circle w0: c2.675,-2.25 r0.201
  circle w0: c2.675,-1.75 r0.201
  circle w0: c2.675,-1.25 r0.201
  circle w0: c2.675,-0.75 r0.201
  circle w0: c2.675,-0.25 r0.201
  circle w0: c2.675,0.25 r0.201
  circle w0: c2.675,0.75 r0.201
  circle w0: c2.675,1.25 r0.201
  circle w0: c2.675,1.75 r0.201
  circle w0: c2.675,2.25 r0.201
  circle w0: c2.25,2.675 r0.201
  circle w0: c1.75,2.675 r0.201
  circle w0: c1.25,2.675 r0.201
  circle w0: c0.75,2.675 r0.201
  circle w0: c0.25,2.675 r0.201
  circle w0: c-0.25,2.675 r0.201
  circle w0: c-0.75,2.675 r0.201
  circle w0: c-1.25,2.675 r0.201
  circle w0: c-1.75,2.675 r0.201
  circle w0: c-2.25,2.675 r0.201
  rectangle: -3.125,2.05 -2.7,2.45
  rectangle: -3.125,1.55 -2.7,1.95
  rectangle: -3.125,1.05 -2.7,1.45
  rectangle: -3.125,0.55 -2.7,0.95
  rectangle: -3.125,0.05 -2.7,0.45
  rectangle: -3.125,-0.45 -2.7,-0.05
  rectangle: -3.125,-0.95 -2.7,-0.55
  rectangle: -3.125,-1.45 -2.7,-1.05
  rectangle: -3.125,-1.95 -2.7,-1.55
  rectangle: -3.125,-2.45 -2.7,-2.05
  region: -2.05,-3.125 -2.05,-2.7 -2.45,-2.7 -2.45,-3.125
  region: -1.55,-3.125 -1.55,-2.7 -1.95,-2.7 -1.95,-3.125
  region: -1.05,-3.125 -1.05,-2.7 -1.45,-2.7 -1.45,-3.125
  region: -0.55,-3.125 -0.55,-2.7 -0.95,-2.7 -0.95,-3.125
  region: -0.05,-3.125 -0.05,-2.7 -0.45,-2.7 -0.45,-3.125
  region: 0.45,-3.125 0.45,-2.7 0.05,-2.7 0.05,-3.125
  region: 0.95,-3.125 0.95,-2.7 0.55,-2.7 0.55,-3.125
  region: 1.45,-3.125 1.45,-2.7 1.05,-2.7 1.05,-3.125
  region: 1.95,-3.125 1.95,-2.7 1.55,-2.7 1.55,-3.125
  region: 2.45,-3.125 2.45,-2.7 2.05,-2.7 2.05,-3.125
  region: 3.125,-2.05 2.7,-2.05 2.7,-2.45 3.125,-2.45
  region: 3.125,-1.55 2.7,-1.55 2.7,-1.95 3.125,-1.95
  region: 3.125,-1.05 2.7,-1.05 2.7,-1.45 3.125,-1.45
  region: 3.125,-0.55 2.7,-0.55 2.7,-0.95 3.125,-0.95
  region: 3.125,-0.05 2.7,-0.05 2.7,-0.45 3.125,-0.45
  region: 3.125,0.45 2.7,0.45 2.7,0.05 3.125,0.05
  region: 3.125,0.95 2.7,0.95 2.7,0.55 3.125,0.55
  region: 3.125,1.45 2.7,1.45 2.7,1.05 3.125,1.05
  region: 3.125,1.95 2.7,1.95 2.7,1.55 3.125,1.55
  region: 3.125,2.45 2.7,2.45 2.7,2.05 3.125,2.05
  region: 2.05,3.125 2.05,2.7 2.45,2.7 2.45,3.125
  region: 1.55,3.125 1.55,2.7 1.95,2.7 1.95,3.125
  region: 1.05,3.125 1.05,2.7 1.45,2.7 1.45,3.125
  region: 0.55,3.125 0.55,2.7 0.95,2.7 0.95,3.125
  region: 0.05,3.125 0.05,2.7 0.45,2.7 0.45,3.125
  region: -0.45,3.125 -0.45,2.7 -0.05,2.7 -0.05,3.125
  region: -0.95,3.125 -0.95,2.7 -0.55,2.7 -0.55,3.125
  region: -1.45,3.125 -1.45,2.7 -1.05,2.7 -1.05,3.125
  region: -1.95,3.125 -1.95,2.7 -1.55,2.7 -1.55,3.125
  region: -2.45,3.125 -2.45,2.7 -2.05,2.7 -2.05,3.125
Mechanical 16:
  rectangle: -2.9,0 0,2.9
  lines w0.203: -2.9,-2.9 2.9,-2.9 2.9,2.9 -2.9,2.9 -2.9,-2.9

## QFN44ML8X8 [mm]
pads (45):
  rrect40% 0.45x0.33 smd: 1(-3.787,3.25) 11(-3.787,-3.25) 23(3.787,-3.25) 33(3.787,3.25)
  rect 0.45x0.33 smd: 2(-3.787,2.6) 3(-3.787,1.95) 4(-3.787,1.3) 5(-3.787,0.65) 6(-3.787,0) 7(-3.787,-0.65) 8(-3.787,-1.3) 9(-3.787,-1.95) 10(-3.787,-2.6) 24(3.787,-2.6) 25(3.787,-1.95) 26(3.787,-1.3) 27(3.787,-0.65) 28(3.787,0) 29(3.787,0.65) 30(3.787,1.3) 31(3.787,1.95) 32(3.787,2.6)
  rrect40% 0.33x0.45 smd: 12(-3.25,-3.787) 22(3.25,-3.787) 34(3.25,3.787) 44(-3.25,3.787)
  rect 0.33x0.45 smd: 13(-2.6,-3.787) 14(-1.95,-3.787) 15(-1.3,-3.787) 16(-0.65,-3.787) 17(0,-3.787) 18(0.65,-3.787) 19(1.3,-3.787) 20(1.95,-3.787) 21(2.6,-3.787) 35(2.6,3.787) 36(1.95,3.787) 37(1.3,3.787) 38(0.65,3.787) 39(0,3.787) 40(-0.65,3.787) 41(-1.3,3.787) 42(-1.95,3.787) 43(-2.6,3.787)
  rect 6x6 smd: EXP(0,0)
Top Solder:
  rectangle: -4.05,3.05 -3.525,3.45
  rectangle: -4.05,2.4 -3.525,2.8
  rectangle: -4.05,1.75 -3.525,2.15
  rectangle: -4.05,1.1 -3.525,1.5
  rectangle: -4.05,0.45 -3.525,0.85
  rectangle: -4.05,-0.2 -3.525,0.2
  rectangle: -4.05,-0.85 -3.525,-0.45
  rectangle: -4.05,-1.5 -3.525,-1.1
  rectangle: -4.05,-2.15 -3.525,-1.75
  rectangle: -4.05,-2.8 -3.525,-2.4
  rectangle: -4.05,-3.45 -3.525,-3.05
  region: -3.05,-4.05 -3.05,-3.525 -3.45,-3.525 -3.45,-4.05
  region: -2.4,-4.05 -2.4,-3.525 -2.8,-3.525 -2.8,-4.05
  region: -1.75,-4.05 -1.75,-3.525 -2.15,-3.525 -2.15,-4.05
  region: -1.1,-4.05 -1.1,-3.525 -1.5,-3.525 -1.5,-4.05
  region: -0.45,-4.05 -0.45,-3.525 -0.85,-3.525 -0.85,-4.05
  region: 0.2,-4.05 0.2,-3.525 -0.2,-3.525 -0.2,-4.05
  region: 0.85,-4.05 0.85,-3.525 0.45,-3.525 0.45,-4.05
  region: 1.5,-4.05 1.5,-3.525 1.1,-3.525 1.1,-4.05
  region: 2.15,-4.05 2.15,-3.525 1.75,-3.525 1.75,-4.05
  region: 2.8,-4.05 2.8,-3.525 2.4,-3.525 2.4,-4.05
  region: 3.45,-4.05 3.45,-3.525 3.05,-3.525 3.05,-4.05
  region: 4.05,-3.05 3.525,-3.05 3.525,-3.45 4.05,-3.45
  region: 4.05,-2.4 3.525,-2.4 3.525,-2.8 4.05,-2.8
  region: 4.05,-1.75 3.525,-1.75 3.525,-2.15 4.05,-2.15
  region: 4.05,-1.1 3.525,-1.1 3.525,-1.5 4.05,-1.5
  region: 4.05,-0.45 3.525,-0.45 3.525,-0.85 4.05,-0.85
  region: 4.05,0.2 3.525,0.2 3.525,-0.2 4.05,-0.2
  region: 4.05,0.85 3.525,0.85 3.525,0.45 4.05,0.45
  region: 4.05,1.5 3.525,1.5 3.525,1.1 4.05,1.1
  region: 4.05,2.15 3.525,2.15 3.525,1.75 4.05,1.75
  region: 4.05,2.8 3.525,2.8 3.525,2.4 4.05,2.4
  region: 4.05,3.45 3.525,3.45 3.525,3.05 4.05,3.05
  region: 3.05,4.05 3.05,3.525 3.45,3.525 3.45,4.05
  region: 2.4,4.05 2.4,3.525 2.8,3.525 2.8,4.05
  region: 1.75,4.05 1.75,3.525 2.15,3.525 2.15,4.05
  region: 1.1,4.05 1.1,3.525 1.5,3.525 1.5,4.05
  region: 0.45,4.05 0.45,3.525 0.85,3.525 0.85,4.05
  region: -0.2,4.05 -0.2,3.525 0.2,3.525 0.2,4.05
  region: -0.85,4.05 -0.85,3.525 -0.45,3.525 -0.45,4.05
  region: -1.5,4.05 -1.5,3.525 -1.1,3.525 -1.1,4.05
  region: -2.15,4.05 -2.15,3.525 -1.75,3.525 -1.75,4.05
  region: -2.8,4.05 -2.8,3.525 -2.4,3.525 -2.4,4.05
  region: -3.45,4.05 -3.45,3.525 -3.05,3.525 -3.05,4.05
  rectangle: -2.962,-2.962 2.962,2.962
Mechanical 16:
  rectangle: -3.837,0.65 -0.662,3.837
  lines w0.203: -3.9,-3.9 3.9,-3.9 3.9,3.9 -3.9,3.9 -3.9,-3.9

## S44 [mil]
pads (44):
  round 48 hole 32: 1(50,250)
  oct 48x48 hole 32: 2(-50,350) 3(-50,250) 4(-150,350) 5(-150,250) 6(-250,350) 7(-350,250) 8(-250,250) 9(-350,150) 10(-250,150) 11(-350,50) 12(-250,50) 13(-350,-50) 14(-250,-50) 15(-350,-150) 16(-250,-150) 17(-350,-250) 18(-250,-350) 19(-250,-250) 20(-150,-350) 21(-150,-250) 22(-50,-350) 23(-50,-250) 24(50,-350) 25(50,-250) 26(150,-350) 27(150,-250) 28(250,-350) 29(350,-250) 30(250,-250) 31(350,-150) 32(250,-150) 33(350,-50) 34(250,-50) 35(350,50) 36(250,50) 37(350,150) 38(250,150) 39(350,250) 40(250,350) 41(250,250) 42(150,350) 43(150,250) 44(50,350)
Top Overlay:
  circle w6: c-100,100 r50
  circle w6: c100,100 r50
  circle w6: c-100,-100 r50
  circle w6: c100,-100 r50
  rectangle: -20,85 20,160
  rectangle: -35,150 35,165
  rectangle: -25,165 25,175
  rectangle: -15,175 15,185
  rectangle: -5,185 5,195
  rectangle: -45,150 -35,155
  rectangle: -40,155 -35,160
  rectangle: -30,165 -25,170
  rectangle: -20,175 -15,180
  rectangle: -10,185 -5,190
  rectangle: 5,185 10,190
  rectangle: 15,175 20,180
  rectangle: 25,165 30,170
  rectangle: 35,150 45,155
  rectangle: 35,155 40,160
  lines w6: -370,-215 -410,-215 -410,-185 -370,-185 ; -370,-115 -410,-115 -410,-85 -370,-85 ; -370,-15 -410,-15 -410,15 -370,15 ; -370,85 -410,85 -410,115 -370,115 ; -370,185 -410,185 -410,215 -370,215 ; -325,-275 -325,-285 -410,-370 -370,-410 -285,-325 -275,-325 ; -325,275 -275,325 ; -215,-370 -215,-410 -185,-410 -185,-370 ; -215,370 -215,410 -185,410 -185,370 ; -115,-375 -115,-410 -85,-410 -85,-375 ; -115,370 -115,410 -85,410 -85,370 ; -15,-375 -15,-410 15,-410 15,-375 ; -15,370 -15,410 15,410 15,370 ; 85,-375 85,-410 115,-410 115,-375 ; 85,370 85,410 115,410 115,370 ; 185,-375 185,-410 215,-410 215,-375 ; 185,370 185,410 215,410 215,370 ; 275,325 285,325 370,410 410,370 325,285 325,275 ; 280,-325 325,-325 325,-280 ; 370,-215 410,-215 410,-185 370,-185 ; 370,-115 410,-115 410,-85 370,-85 ; 370,-15 410,-15 410,15 370,15 ; 370,85 410,85 410,115 370,115 ; 370,185 410,185 410,215 370,215 ; -460,-435 -460,400 -400,460 435,460 cw(c435,435) 460,435 460,-435 cw(c435,-435) 435,-460 -435,-460 cw(c-435,-435) -460,-435 ; -50,150 50,150 0,200 -50,150
  text "44" at 325,-425 h77.5
Mechanical 16:
  drawing of 159 lines, arcs and shapes, not listed

## SO28W [mm]
pads (28):
  rect 0.65x1.7 smd: 1(-7.62,-4.78) 2(-6.35,-4.78) 3(-5.08,-4.78) 4(-3.81,-4.78) 5(-2.54,-4.78) 6(-1.27,-4.78) 7(0,-4.78) 8(1.27,-4.78) 9(2.54,-4.78) 10(3.81,-4.78) 11(5.08,-4.78) 12(6.35,-4.78) 13(7.62,-4.78) 14(8.89,-4.78) 15(8.89,4.78) 16(7.62,4.78) 17(6.35,4.78) 18(5.08,4.78) 19(3.81,4.78) 20(2.54,4.78) 21(1.27,4.78) 22(0,4.78) 23(-1.27,4.78) 24(-2.54,4.78) 25(-3.81,4.78) 26(-5.08,4.78) 27(-6.35,4.78) 28(-7.62,4.78)
Top Overlay:
  circle w0.152: c-7.239,-3.15 r0.533
  lines w0.152: -8.179,-3.713 -8.179,3.713 9.474,3.713 9.474,-3.713 -8.179,-3.713
Mechanical 16:
  rectangle: -7.874,3.739 -7.366,5.263
  rectangle: -6.604,3.739 -6.096,5.263
  rectangle: -5.334,3.739 -4.826,5.263
  rectangle: -4.064,3.739 -3.556,5.263
  rectangle: -2.794,3.739 -2.286,5.263
  rectangle: -1.524,3.739 -1.016,5.263
  rectangle: -0.254,3.739 0.254,5.263
  rectangle: 1.016,3.739 1.524,5.263
  rectangle: 2.286,3.739 2.794,5.263
  rectangle: 3.556,3.739 4.064,5.263
  rectangle: 4.826,3.739 5.334,5.263
  rectangle: 6.096,3.739 6.604,5.263
  rectangle: 7.366,3.739 7.874,5.263
  rectangle: 8.636,3.739 9.144,5.263
  rectangle: 8.636,-5.263 9.144,-3.739
  rectangle: 7.366,-5.263 7.874,-3.739
  rectangle: 6.096,-5.263 6.604,-3.739
  rectangle: 4.826,-5.263 5.334,-3.739
  rectangle: 3.556,-5.263 4.064,-3.739
  rectangle: 2.286,-5.263 2.794,-3.739
  rectangle: 1.016,-5.263 1.524,-3.739
  rectangle: -0.254,-5.263 0.254,-3.739
  rectangle: -1.524,-5.263 -1.016,-3.739
  rectangle: -2.794,-5.263 -2.286,-3.739
  rectangle: -4.064,-5.263 -3.556,-3.739
  rectangle: -5.334,-5.263 -4.826,-3.739
  rectangle: -6.604,-5.263 -6.096,-3.739
  rectangle: -7.874,-5.263 -7.366,-3.739
3D body "User Library-28-SOIC.STEP": height 2.65, standoff -0.1, extent -8.315,-5.093 9.585,5.207

## SO-08 [mm]
pads (8):
  rect 0.6x2.2 smd: 1(-1.905,-2.6) 2(-0.635,-2.6) 3(0.635,-2.6) 4(1.905,-2.6) 5(1.905,2.6) 6(0.635,2.6) 7(-0.635,2.6) 8(-1.905,2.6)
Mechanical 16:
  rectangle: -2.15,-3.1 -1.66,-2
  rectangle: -0.88,-3.1 -0.39,-2
  rectangle: 0.39,-3.1 0.88,-2
  rectangle: 1.66,-3.1 2.15,-2
  rectangle: 1.66,2 2.15,3.1
  rectangle: 0.39,2 0.88,3.1
  rectangle: -0.88,2 -0.39,3.1
  rectangle: -2.15,2 -1.66,3.1
  lines w0.203: -2.4,-1.4 -2.4,-1.9 2.4,-1.9 2.4,-1.4 ; -2.4,-1.4 -2.4,1.9 2.4,1.9 2.4,-1.4 ; -2.4,-1.4 2.4,-1.4
Mechanical 27:
  lines w0.2: -2.9,-3.9 2.9,-3.9 2.9,3.9 -2.9,3.9 -2.9,-3.9
3D body "User Library-SOIC-8-1.step": height 1.75, standoff 0, extent -2.45,-3 2.45,3

## SO-08M [mm]
pads (8):
  rect 0.6x2.2 smd: 1(-1.905,-3.33) 2(-0.635,-3.33) 3(0.635,-3.33) 4(1.905,-3.33) 5(1.905,3.33) 6(0.635,3.33) 7(-0.635,3.33) 8(-1.905,3.33)
Top Overlay:
  rectangle: -2.15,-4.05 -1.66,-2.53
  rectangle: -0.88,-4.05 -0.39,-2.53
  rectangle: 0.39,-4.05 0.88,-2.53
  rectangle: 1.66,-4.05 2.15,-2.53
  rectangle: 1.66,2.53 2.15,4.05
  rectangle: 0.39,2.53 0.88,4.05
  rectangle: -0.88,2.53 -0.39,4.05
  rectangle: -2.15,2.53 -1.66,4.05
  lines w0.203: -2.4,-2.43 -2.4,-1.93 ; -2.4,2.43 -2.4,-1.93 ; 2.4,-2.43 2.4,-1.93 ; 2.4,2.43 2.4,-1.93 ; -2.4,-1.93 2.4,-1.93
Mechanical 13:
  text "SO8 Medium" at -1.905,-1.27 h0.47
  text "Microchip" at -1.905,-0.635 h0.47
Mechanical 16:
  lines w0.203: -2.4,-2.43 2.4,-2.43 ; -2.4,2.43 2.4,2.43

## SO-08W [mm]
pads (8):
  rect 0.6x2.2 smd: 1(-1.905,-4.6) 2(-0.635,-4.6) 3(0.635,-4.6) 4(1.905,-4.6) 5(1.905,4.6) 6(0.635,4.6) 7(-0.635,4.6) 8(-1.905,4.6)
Top Overlay:
  rectangle: -2.15,-5.32 -1.66,-3.8
  rectangle: -0.88,-5.32 -0.39,-3.8
  rectangle: 0.39,-5.32 0.88,-3.8
  rectangle: 1.66,-5.32 2.15,-3.8
  rectangle: 1.66,3.8 2.15,5.32
  rectangle: 0.39,3.8 0.88,5.32
  rectangle: -0.88,3.8 -0.39,5.32
  rectangle: -2.15,3.8 -1.66,5.32
  lines w0.203: -2.4,-3.2 -2.4,-3.7 2.4,-3.7 2.4,-3.2
Mechanical 6:
  rectangle: -1,-1 1,1
Mechanical 13:
  text "IPC SO8W" at 0,-2.54 h0.63
Mechanical 16:
  lines w0.203: -2.4,-3.2 -2.4,3.7 2.4,3.7 2.4,-3.2 -2.4,-3.2
Mechanical 27:
  lines w0.2: -2.9,-5.9 2.9,-5.9 2.9,5.9 -2.9,5.9 -2.9,-5.9

## SO-14 [mm]
pads (14):
  rect 0.6x2.2 smd: 1(-3.81,-2.6) 2(-2.54,-2.6) 3(-1.27,-2.6) 4(0,-2.6) 5(1.27,-2.6) 6(2.54,-2.6) 7(3.81,-2.6) 8(3.81,2.6) 9(2.54,2.6) 10(1.27,2.6) 11(0,2.6) 12(-1.27,2.6) 13(-2.54,2.6) 14(-3.81,2.6)
Mechanical 13:
  text "JEDEC MS-012 AB" at -3.81,0.365 h0.47
  text "IPC SO14" at -3.81,-0.635 h0.63
Mechanical 16:
  rectangle: -4.055,-3.1 -3.565,-2
  rectangle: -2.785,-3.1 -2.295,-2
  rectangle: -1.515,-3.1 -1.025,-2
  rectangle: -0.245,-3.1 0.245,-2
  rectangle: -0.245,2 0.245,3.1
  rectangle: -1.515,2 -1.025,3.1
  rectangle: -2.785,2 -2.295,3.1
  rectangle: -4.055,2 -3.565,3.1
  rectangle: 1.025,-3.1 1.515,-2
  rectangle: 2.295,-3.1 2.785,-2
  rectangle: 3.565,-3.1 4.055,-2
  rectangle: 3.565,2 4.055,3.1
  rectangle: 2.295,2 2.785,3.1
  rectangle: 1.025,2 1.515,3.1
  lines w0.203: -4.305,-1.4 -4.305,-1.9 4.305,-1.9 4.305,-1.4 ; -4.305,-1.4 -4.305,1.9 4.305,1.9 4.305,-1.4 ; -4.305,-1.4 4.305,-1.4
Mechanical 27:
  lines w0.2: -4.895,-3.9 4.895,-3.9 4.895,3.9 -4.895,3.9 -4.895,-3.9

## SO-14DW [mm]
pads (14):
  rect 0.6x2.2 smd: 1(-3.81,-4.6) 2(-2.54,-4.6) 3(-1.27,-4.6) 4(0,-4.6) 5(1.27,-4.6) 6(2.54,-4.6) 7(3.81,-4.6) 8(3.81,4.6) 9(2.54,4.6) 10(1.27,4.6) 11(0,4.6) 12(-1.27,4.6) 13(-2.54,4.6) 14(-3.81,4.6)
Mechanical 16:
  rectangle: -4.055,-5.32 -3.565,-3.8
  rectangle: -2.785,-5.32 -2.295,-3.8
  rectangle: -1.515,-5.32 -1.025,-3.8
  rectangle: -0.245,-5.32 0.245,-3.8
  rectangle: 1.025,-5.32 1.515,-3.8
  rectangle: 2.295,-5.32 2.785,-3.8
  rectangle: 3.565,-5.32 4.055,-3.8
  rectangle: 3.565,3.8 4.055,5.32
  rectangle: 2.295,3.8 2.785,5.32
  rectangle: 1.025,3.8 1.515,5.32
  rectangle: -0.245,3.8 0.245,5.32
  rectangle: -1.515,3.8 -1.025,5.32
  rectangle: -2.785,3.8 -2.295,5.32
  rectangle: -4.055,3.8 -3.565,5.32
  lines w0.203: -4.305,-3.2 -4.305,-3.7 4.305,-3.7 4.305,-3.2 ; -4.305,-3.2 -4.305,3.7 4.305,3.7 4.305,-3.2 ; -4.305,-3.2 4.305,-3.2
Mechanical 27:
  lines w0.2: -4.763,-5.715 -4.763,5.715 4.763,5.715 4.763,-5.715 -4.763,-5.715

## SO-16DW [mm]
pads (16):
  rect 0.6x2.2 smd: 1(-4.445,-4.6) 2(-3.175,-4.6) 3(-1.905,-4.6) 4(-0.635,-4.6) 5(0.635,-4.6) 6(1.905,-4.6) 7(3.175,-4.6) 8(4.445,-4.6) 9(4.445,4.6) 10(3.175,4.6) 11(1.905,4.6) 12(0.635,4.6) 13(-0.635,4.6) 14(-1.905,4.6) 15(-3.175,4.6) 16(-4.445,4.6)
Top Overlay:
  lines w0.203: -5.19,-3.2 5.19,-3.2
Mechanical 16:
  rectangle: -4.69,-5.32 -4.2,-3.8
  rectangle: -3.42,-5.32 -2.93,-3.8
  rectangle: -2.15,-5.32 -1.66,-3.8
  rectangle: -0.88,-5.32 -0.39,-3.8
  rectangle: 0.39,-5.32 0.88,-3.8
  rectangle: 1.66,-5.32 2.15,-3.8
  rectangle: 2.93,-5.32 3.42,-3.8
  rectangle: 4.2,-5.32 4.69,-3.8
  rectangle: 4.2,3.8 4.69,5.32
  rectangle: 2.93,3.8 3.42,5.32
  rectangle: 1.66,3.8 2.15,5.32
  rectangle: 0.39,3.8 0.88,5.32
  rectangle: -0.88,3.8 -0.39,5.32
  rectangle: -2.15,3.8 -1.66,5.32
  rectangle: -3.42,3.8 -2.93,5.32
  rectangle: -4.69,3.8 -4.2,5.32
  lines w0.203: -5.19,-3.7 5.19,-3.7 5.19,3.7 -5.19,3.7 -5.19,-3.7
Mechanical 27:
  lines w0.2: -5.395,-5.9 5.395,-5.9 5.395,5.9 -5.395,5.9 -5.395,-5.9